# Altium footprint library ON.PcbLib: 1 footprints
Each footprint in its own frame and in the unit in brackets; x right, y up, seen from the top. Pads: shape width x height; smd on the part's side, far side on the other; paste and mask are expansions set on the pad; w line width, h text height; cw(c..) or ccw(c..) is an arc to the next point about the centre after c.
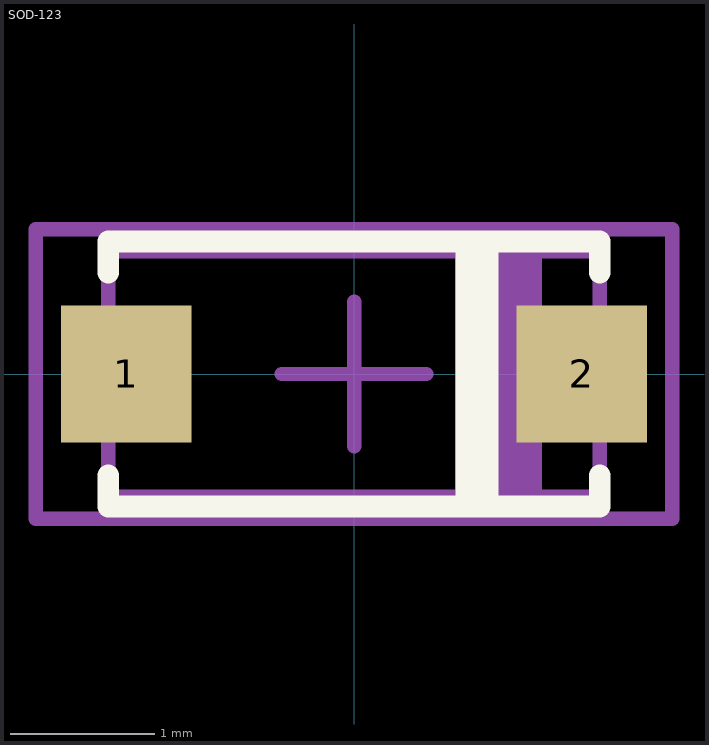
[diagram p0: the footprint, top view; thin cyan lines are the x and y axes]

## SOD-123 [mm] "SOD-123 CASE 425-04"
pads (2):
  rect 0.9x0.95 smd: 1(-1.575,0) 2(1.575,0)
Top Overlay:
  lines w0.15: -1.7,-0.7 -1.7,-0.916 1.7,-0.916 1.7,-0.7 ; -1.7,0.7 -1.7,0.916 1.7,0.916 1.7,0.7
  lines w0.2: 0.8,-0.85 0.8,0.85 ; 0.9,-0.85 0.9,0.85
Top 3D Body:
  rectangle: 0.7,-0.85 1.3,0.85
  lines w0.1: -1.7,-0.85 -1.7,0.85 1.7,0.85 1.7,-0.85 -1.7,-0.85
Top Assembly:
  lines w0.1: -0.5,0 0.5,0 ; 0,-0.5 0,0.5 ; -2.2,-1 -2.2,1 2.2,1 2.2,-1 -2.2,-1
3D body "ON_SOD-123_CASE425-04.STEP": height 1.2, standoff 0, extent -1.65,-0.8 1.65,0.8